# Altium schematic symbol library SCH - DIODES - PHOTODIODE IPC.SCHLIB: 1 symbol
Pins are listed as number, name and electrical type; pins without a type are passive.

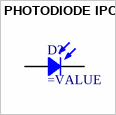
[diagram p0: symbol PHOTODIODE IPC]

## PHOTODIODE IPC
designator D?
Photodiode
pins: 1 Cathode, 2 Anode